# EAGLE library part PI (library fruit-parts)
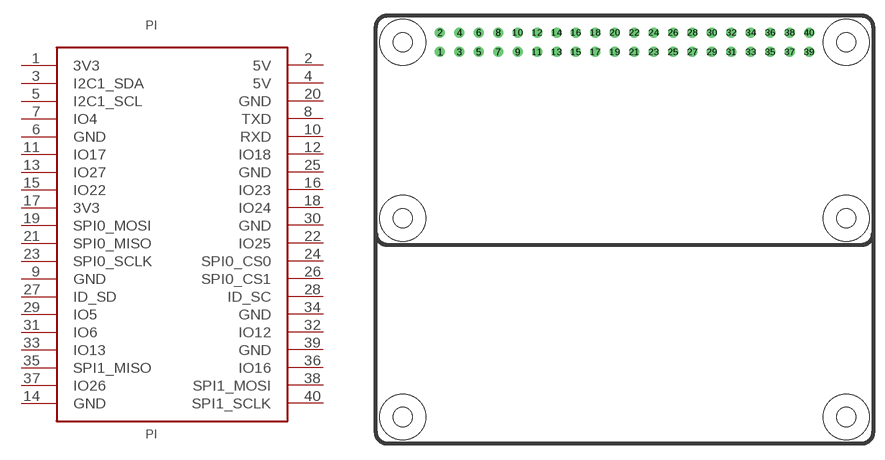
[diagram p6: symbol with the pads of PI; footprint PI]

Designator prefix PI

## PI  [PI]
1  3V3  pwr
2  5V  pwr
3  I2C1_SDA
4  5V  pwr
5  I2C1_SCL
6  GND  pwr
7  IO4
8  TXD
9  GND  pwr
10  RXD
11  IO17
12  IO18
13  IO27
14  GND  pwr
15  IO22
16  IO23
17  3V3  pwr
18  IO24
19  SPI0_MOSI
20  GND  pwr
21  SPI0_MISO
22  IO25
23  SPI0_SCLK
24  SPI0_CS0
25  GND  pwr
26  SPI0_CS1
27  ID_SD
28  ID_SC
29  IO5
30  GND  pwr
31  IO6
32  IO12
33  IO13
34  GND  pwr
35  SPI1_MISO
36  IO16
37  IO26
38  SPI1_MOSI
39  GND  pwr
40  SPI1_SCLK

## Footprint PI (pad centres in mm)
drill 0.8: 1 -24.13,23.23; 2 -24.13,25.77; 3 -21.59,23.23; 4 -21.59,25.77; 5 -19.05,23.23; 6 -19.05,25.77; 7 -16.51,23.23; 8 -16.51,25.77; 9 -13.97,23.23; 10 -13.97,25.77; 11 -11.43,23.23; 12 -11.43,25.77; 13 -8.89,23.23; 14 -8.89,25.77; 15 -6.35,23.23; 16 -6.35,25.77; 17 -3.81,23.23; 18 -3.81,25.77; 19 -1.27,23.23; 20 -1.27,25.77; 21 1.27,23.23; 22 1.27,25.77; 23 3.81,23.23; 24 3.81,25.77; 25 6.35,23.23; 26 6.35,25.77; 27 8.89,23.23; 28 8.89,25.77; 29 11.43,23.23; 30 11.43,25.77; 31 13.97,23.23; 32 13.97,25.77; 33 16.51,23.23; 34 16.51,25.77; 35 19.05,23.23; 36 19.05,25.77; 37 21.59,23.23; 38 21.59,25.77; 39 24.13,23.23; 40 24.13,25.77
hole 2.5 at -29,24.5
hole 2.5 at 29,24.5
hole 2.5 at -29,1.5
hole 2.5 at 29,1.5
hole 2.5 at -29,-24.5
hole 2.5 at 29,-24.5